# Altium integrated library CAP-CSGP_rev15b.intlib: 820 symbols (part 7 of 9)
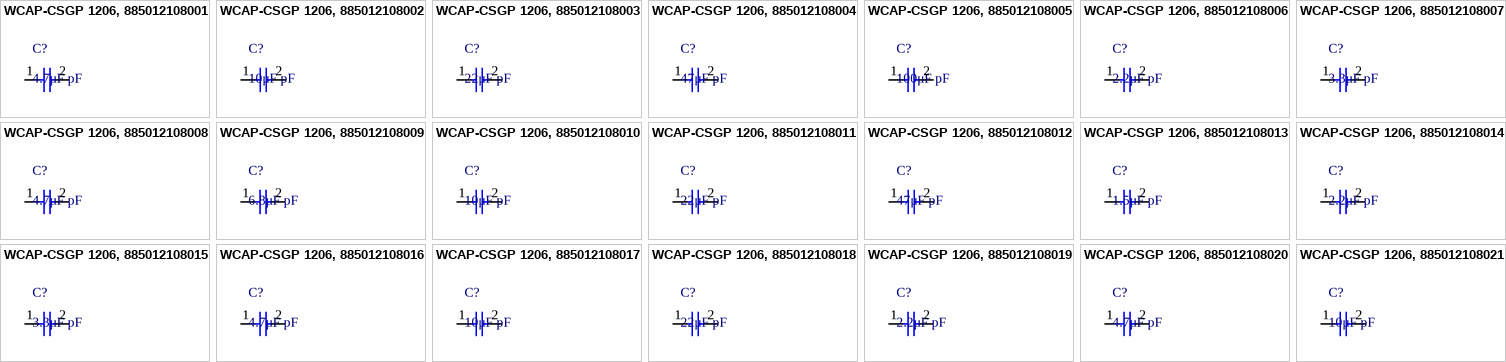
[diagram p34: symbols WCAP-CSGP 1206, 885012108001 to WCAP-CSGP 1206, 885012108021]

## WCAP-CSGP 1206, 885012108010
designator C?, comment 10μF pF
WCAP-CSGP MLCC, X5R, 1206, 10μF pF,10Vdc; Manufacturer: Wurth Elektronik; partNo: 885012108010; E-mail: libraries@we-online.com; ComponentLink1Description: Manufacturer; ComponentLink1URL: http://www.we-online.com; ComponentLink2Description: Datasheet; ComponentLink2URL: http://katalog.we-online.de/pbs/datasheet/885012108010.pdf; Created by: Karrer Zheng; Created Date: 3/9/2015; Capacitance: 10μF pF
footprint WCAP-CSGP 1206, H=1.6mm
pins: 1, 2

## WCAP-CSGP 1206, 885012108011
designator C?, comment 22μF pF
WCAP-CSGP MLCC, X5R, 1206, 22μF pF,10Vdc; Manufacturer: Wurth Elektronik; partNo: 885012108011; E-mail: libraries@we-online.com; ComponentLink1Description: Manufacturer; ComponentLink1URL: http://www.we-online.com; ComponentLink2Description: Datasheet; ComponentLink2URL: http://katalog.we-online.de/pbs/datasheet/885012108011.pdf; Created by: Karrer Zheng; Created Date: 3/9/2015; Capacitance: 22μF pF
footprint WCAP-CSGP 1206, H=1.6mm
pins: 1, 2

## WCAP-CSGP 1206, 885012108012
designator C?, comment 47μF pF
WCAP-CSGP MLCC, X5R, 1206, 47μF pF,10Vdc; Manufacturer: Wurth Elektronik; partNo: 885012108012; E-mail: libraries@we-online.com; ComponentLink1Description: Manufacturer; ComponentLink1URL: http://www.we-online.com; ComponentLink2Description: Datasheet; ComponentLink2URL: http://katalog.we-online.de/pbs/datasheet/885012108012.pdf; Created by: Karrer Zheng; Created Date: 3/9/2015; Capacitance: 47μF pF
footprint WCAP-CSGP 1206, H=1.6mm
pins: 1, 2

## WCAP-CSGP 1206, 885012108013
designator C?, comment 1.5μF pF
WCAP-CSGP MLCC, X5R, 1206, 1.5μF pF,16Vdc; Manufacturer: Wurth Elektronik; partNo: 885012108013; E-mail: libraries@we-online.com; ComponentLink1Description: Manufacturer; ComponentLink1URL: http://www.we-online.com; ComponentLink2Description: Datasheet; ComponentLink2URL: http://katalog.we-online.de/pbs/datasheet/885012108013.pdf; Created by: Karrer Zheng; Created Date: 3/9/2015; Capacitance: 1.5μF pF
footprint WCAP-CSGP 1206, H=1.15mm
pins: 1, 2

## WCAP-CSGP 1206, 885012108014
designator C?, comment 2.2μF pF
WCAP-CSGP MLCC, X5R, 1206, 2.2μF pF,16Vdc; Manufacturer: Wurth Elektronik; partNo: 885012108014; E-mail: libraries@we-online.com; ComponentLink1Description: Manufacturer; ComponentLink1URL: http://www.we-online.com; ComponentLink2Description: Datasheet; ComponentLink2URL: http://katalog.we-online.de/pbs/datasheet/885012108014.pdf; Created by: Karrer Zheng; Created Date: 3/9/2015; Capacitance: 2.2μF pF
footprint WCAP-CSGP 1206, H=1.15mm
pins: 1, 2

## WCAP-CSGP 1206, 885012108015
designator C?, comment 3.3μF pF
WCAP-CSGP MLCC, X5R, 1206, 3.3μF pF,16Vdc; Manufacturer: Wurth Elektronik; partNo: 885012108015; E-mail: libraries@we-online.com; ComponentLink1Description: Manufacturer; ComponentLink1URL: http://www.we-online.com; ComponentLink2Description: Datasheet; ComponentLink2URL: http://katalog.we-online.de/pbs/datasheet/885012108015.pdf; Created by: Karrer Zheng; Created Date: 3/9/2015; Capacitance: 3.3μF pF
footprint WCAP-CSGP 1206, H=1.6mm
pins: 1, 2

## WCAP-CSGP 1206, 885012108016
designator C?, comment 4.7μF pF
WCAP-CSGP MLCC, X5R, 1206, 4.7μF pF,16Vdc; Manufacturer: Wurth Elektronik; partNo: 885012108016; E-mail: libraries@we-online.com; ComponentLink1Description: Manufacturer; ComponentLink1URL: http://www.we-online.com; ComponentLink2Description: Datasheet; ComponentLink2URL: http://katalog.we-online.de/pbs/datasheet/885012108016.pdf; Created by: Karrer Zheng; Created Date: 3/9/2015; Capacitance: 4.7μF pF
footprint WCAP-CSGP 1206, H=1.6mm
pins: 1, 2

## WCAP-CSGP 1206, 885012108017
designator C?, comment 10μF pF
WCAP-CSGP MLCC, X5R, 1206, 10μF pF,16Vdc; Manufacturer: Wurth Elektronik; partNo: 885012108017; E-mail: libraries@we-online.com; ComponentLink1Description: Manufacturer; ComponentLink1URL: http://www.we-online.com; ComponentLink2Description: Datasheet; ComponentLink2URL: http://katalog.we-online.de/pbs/datasheet/885012108017.pdf; Created by: Karrer Zheng; Created Date: 3/9/2015; Capacitance: 10μF pF
footprint WCAP-CSGP 1206, H=1.6mm
pins: 1, 2

## WCAP-CSGP 1206, 885012108018
designator C?, comment 22μF pF
WCAP-CSGP MLCC, X5R, 1206, 22μF pF,16Vdc; Manufacturer: Wurth Elektronik; partNo: 885012108018; E-mail: libraries@we-online.com; ComponentLink1Description: Manufacturer; ComponentLink1URL: http://www.we-online.com; ComponentLink2Description: Datasheet; ComponentLink2URL: http://katalog.we-online.de/pbs/datasheet/885012108018.pdf; Created by: Karrer Zheng; Created Date: 3/9/2015; Capacitance: 22μF pF
footprint WCAP-CSGP 1206, H=1.6mm
pins: 1, 2

## WCAP-CSGP 1206, 885012108019
designator C?, comment 2.2μF pF
WCAP-CSGP MLCC, X5R, 1206, 2.2μF pF,25Vdc; Manufacturer: Wurth Elektronik; partNo: 885012108019; E-mail: libraries@we-online.com; ComponentLink1Description: Manufacturer; ComponentLink1URL: http://www.we-online.com; ComponentLink2Description: Datasheet; ComponentLink2URL: http://katalog.we-online.de/pbs/datasheet/885012108019.pdf; Created by: Karrer Zheng; Created Date: 3/9/2015; Capacitance: 2.2μF pF
footprint WCAP-CSGP 1206, H=1.6mm
pins: 1, 2

## WCAP-CSGP 1206, 885012108020
designator C?, comment 4.7μF pF
WCAP-CSGP MLCC, X5R, 1206, 4.7μF pF,25Vdc; Manufacturer: Wurth Elektronik; partNo: 885012108020; E-mail: libraries@we-online.com; ComponentLink1Description: Manufacturer; ComponentLink1URL: http://www.we-online.com; ComponentLink2Description: Datasheet; ComponentLink2URL: http://katalog.we-online.de/pbs/datasheet/885012108020.pdf; Created by: Karrer Zheng; Created Date: 3/9/2015; Capacitance: 4.7μF pF
footprint WCAP-CSGP 1206, H=1.6mm
pins: 1, 2

## WCAP-CSGP 1206, 885012108021
designator C?, comment 10μF pF
WCAP-CSGP MLCC, X5R, 1206, 10μF pF,25Vdc; Manufacturer: Wurth Elektronik; partNo: 885012108021; E-mail: libraries@we-online.com; ComponentLink1Description: Manufacturer; ComponentLink1URL: http://www.we-online.com; ComponentLink2Description: Datasheet; ComponentLink2URL: http://katalog.we-online.de/pbs/datasheet/885012108021.pdf; Created by: Karrer Zheng; Created Date: 3/9/2015; Capacitance: 10μF pF
footprint WCAP-CSGP 1206, H=1.6mm
pins: 1, 2


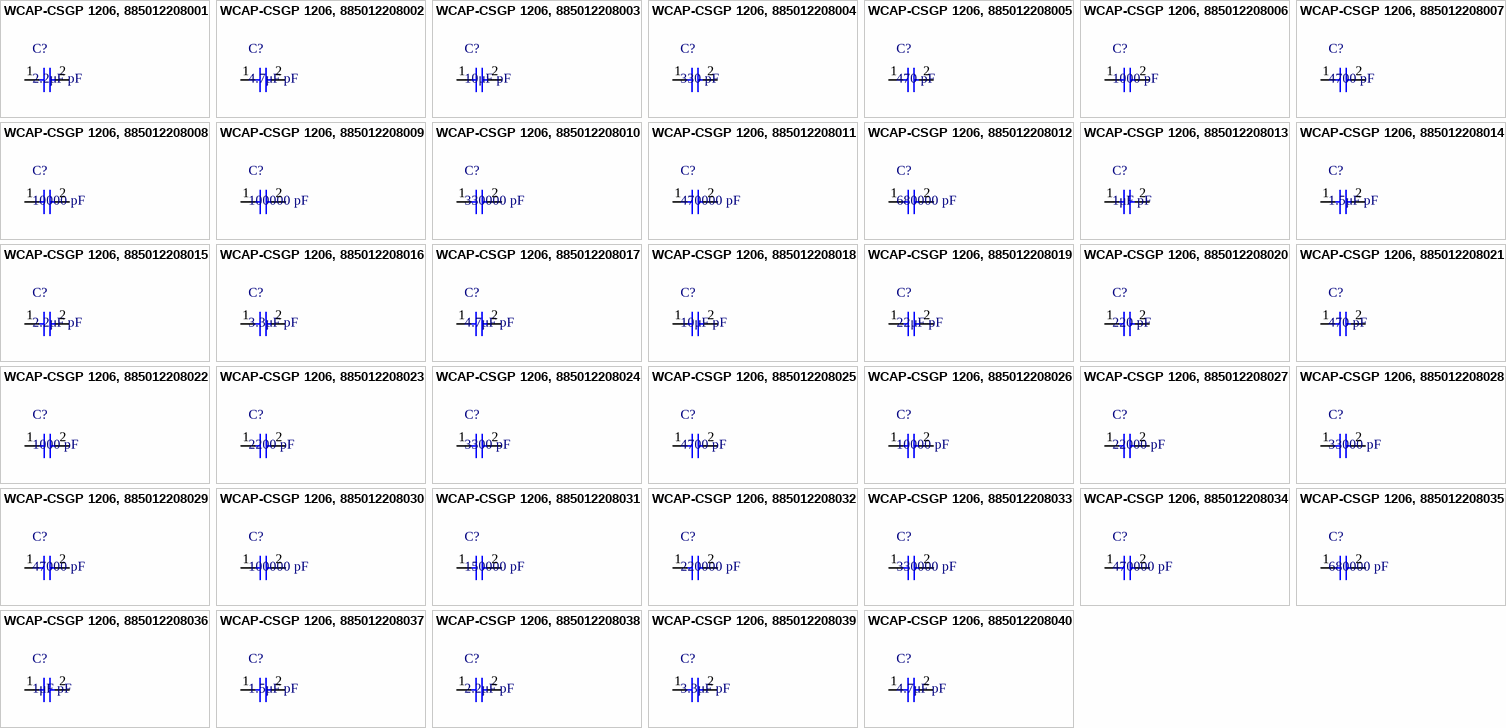
[diagram p20: symbols WCAP-CSGP 1206, 885012208001 to WCAP-CSGP 1206, 885012208040]

## WCAP-CSGP 1206, 885012208001
designator C?, comment 2.2μF pF
WCAP-CSGP MLCC, X7R, 1206, 2.2μF pF,6.3Vdc; Manufacturer: Wurth Elektronik; partNo: 885012208001; E-mail: libraries@we-online.com; ComponentLink1Description: Manufacturer; ComponentLink1URL: http://www.we-online.com; ComponentLink2Description: Datasheet; ComponentLink2URL: http://katalog.we-online.de/pbs/datasheet/885012208001.pdf; Created by: Karrer Zheng; Created Date: 3/9/2015; Capacitance: 2.2μF pF
footprint WCAP-CSGP 1206, H=1.15mm
pins: 1, 2

## WCAP-CSGP 1206, 885012208002
designator C?, comment 4.7μF pF
WCAP-CSGP MLCC, X7R, 1206, 4.7μF pF,6.3Vdc; Manufacturer: Wurth Elektronik; partNo: 885012208002; E-mail: libraries@we-online.com; ComponentLink1Description: Manufacturer; ComponentLink1URL: http://www.we-online.com; ComponentLink2Description: Datasheet; ComponentLink2URL: http://katalog.we-online.de/pbs/datasheet/885012208002.pdf; Created by: Karrer Zheng; Created Date: 3/9/2015; Capacitance: 4.7μF pF
footprint WCAP-CSGP 1206, H=1.6mm
pins: 1, 2

## WCAP-CSGP 1206, 885012208003
designator C?, comment 10μF pF
WCAP-CSGP MLCC, X7R, 1206, 10μF pF,6.3Vdc; Manufacturer: Wurth Elektronik; partNo: 885012208003; E-mail: libraries@we-online.com; ComponentLink1Description: Manufacturer; ComponentLink1URL: http://www.we-online.com; ComponentLink2Description: Datasheet; ComponentLink2URL: http://katalog.we-online.de/pbs/datasheet/885012208003.pdf; Created by: Karrer Zheng; Created Date: 3/9/2015; Capacitance: 10μF pF
footprint WCAP-CSGP 1206, H=1.6mm
pins: 1, 2

## WCAP-CSGP 1206, 885012208004
designator C?, comment 330 pF
WCAP-CSGP MLCC, X7R, 1206, 330 pF,10Vdc; Manufacturer: Wurth Elektronik; partNo: 885012208004; E-mail: libraries@we-online.com; ComponentLink1Description: Manufacturer; ComponentLink1URL: http://www.we-online.com; ComponentLink2Description: Datasheet; ComponentLink2URL: http://katalog.we-online.de/pbs/datasheet/885012208004.pdf; Created by: Karrer Zheng; Created Date: 3/9/2015; Capacitance: 330 pF
footprint WCAP-CSGP 1206, H=0.8mm
pins: 1, 2

## WCAP-CSGP 1206, 885012208005
designator C?, comment 470 pF
WCAP-CSGP MLCC, X7R, 1206, 470 pF,10Vdc; Manufacturer: Wurth Elektronik; partNo: 885012208005; E-mail: libraries@we-online.com; ComponentLink1Description: Manufacturer; ComponentLink1URL: http://www.we-online.com; ComponentLink2Description: Datasheet; ComponentLink2URL: http://katalog.we-online.de/pbs/datasheet/885012208005.pdf; Created by: Karrer Zheng; Created Date: 3/9/2015; Capacitance: 470 pF
footprint WCAP-CSGP 1206, H=0.8mm
pins: 1, 2

## WCAP-CSGP 1206, 885012208006
designator C?, comment 1000 pF
WCAP-CSGP MLCC, X7R, 1206, 1000 pF,10Vdc; Manufacturer: Wurth Elektronik; partNo: 885012208006; E-mail: libraries@we-online.com; ComponentLink1Description: Manufacturer; ComponentLink1URL: http://www.we-online.com; ComponentLink2Description: Datasheet; ComponentLink2URL: http://katalog.we-online.de/pbs/datasheet/885012208006.pdf; Created by: Karrer Zheng; Created Date: 3/9/2015; Capacitance: 1000 pF
footprint WCAP-CSGP 1206, H=0.8mm
pins: 1, 2

## WCAP-CSGP 1206, 885012208007
designator C?, comment 4700 pF
WCAP-CSGP MLCC, X7R, 1206, 4700 pF,10Vdc; Manufacturer: Wurth Elektronik; partNo: 885012208007; E-mail: libraries@we-online.com; ComponentLink1Description: Manufacturer; ComponentLink1URL: http://www.we-online.com; ComponentLink2Description: Datasheet; ComponentLink2URL: http://katalog.we-online.de/pbs/datasheet/885012208007.pdf; Created by: Karrer Zheng; Created Date: 3/9/2015; Capacitance: 4700 pF
footprint WCAP-CSGP 1206, H=0.8mm
pins: 1, 2

## WCAP-CSGP 1206, 885012208008
designator C?, comment 10000 pF
WCAP-CSGP MLCC, X7R, 1206, 10000 pF,10Vdc; Manufacturer: Wurth Elektronik; partNo: 885012208008; E-mail: libraries@we-online.com; ComponentLink1Description: Manufacturer; ComponentLink1URL: http://www.we-online.com; ComponentLink2Description: Datasheet; ComponentLink2URL: http://katalog.we-online.de/pbs/datasheet/885012208008.pdf; Created by: Karrer Zheng; Created Date: 3/9/2015; Capacitance: 10000 pF
footprint WCAP-CSGP 1206, H=0.8mm
pins: 1, 2

## WCAP-CSGP 1206, 885012208009
designator C?, comment 100000 pF
WCAP-CSGP MLCC, X7R, 1206, 100000 pF,10Vdc; Manufacturer: Wurth Elektronik; partNo: 885012208009; E-mail: libraries@we-online.com; ComponentLink1Description: Manufacturer; ComponentLink1URL: http://www.we-online.com; ComponentLink2Description: Datasheet; ComponentLink2URL: http://katalog.we-online.de/pbs/datasheet/885012208009.pdf; Created by: Karrer Zheng; Created Date: 3/9/2015; Capacitance: 100000 pF
footprint WCAP-CSGP 1206, H=0.8mm
pins: 1, 2

## WCAP-CSGP 1206, 885012208010
designator C?, comment 330000 pF
WCAP-CSGP MLCC, X7R, 1206, 330000 pF,10Vdc; Manufacturer: Wurth Elektronik; partNo: 885012208010; E-mail: libraries@we-online.com; ComponentLink1Description: Manufacturer; ComponentLink1URL: http://www.we-online.com; ComponentLink2Description: Datasheet; ComponentLink2URL: http://katalog.we-online.de/pbs/datasheet/885012208010.pdf; Created by: Karrer Zheng; Created Date: 3/9/2015; Capacitance: 330000 pF
footprint WCAP-CSGP 1206, H=0.95mm
pins: 1, 2

## WCAP-CSGP 1206, 885012208011
designator C?, comment 470000 pF
WCAP-CSGP MLCC, X7R, 1206, 470000 pF,10Vdc; Manufacturer: Wurth Elektronik; partNo: 885012208011; E-mail: libraries@we-online.com; ComponentLink1Description: Manufacturer; ComponentLink1URL: http://www.we-online.com; ComponentLink2Description: Datasheet; ComponentLink2URL: http://katalog.we-online.de/pbs/datasheet/885012208011.pdf; Created by: Karrer Zheng; Created Date: 3/9/2015; Capacitance: 470000 pF
footprint WCAP-CSGP 1206, H=1.15mm
pins: 1, 2

## WCAP-CSGP 1206, 885012208012
designator C?, comment 680000 pF
WCAP-CSGP MLCC, X7R, 1206, 680000 pF,10Vdc; Manufacturer: Wurth Elektronik; partNo: 885012208012; E-mail: libraries@we-online.com; ComponentLink1Description: Manufacturer; ComponentLink1URL: http://www.we-online.com; ComponentLink2Description: Datasheet; ComponentLink2URL: http://katalog.we-online.de/pbs/datasheet/885012208012.pdf; Created by: Karrer Zheng; Created Date: 3/9/2015; Capacitance: 680000 pF
footprint WCAP-CSGP 1206, H=1.15mm
pins: 1, 2

## WCAP-CSGP 1206, 885012208013
designator C?, comment 1μF pF
WCAP-CSGP MLCC, X7R, 1206, 1μF pF,10Vdc; Manufacturer: Wurth Elektronik; partNo: 885012208013; E-mail: libraries@we-online.com; ComponentLink1Description: Manufacturer; ComponentLink1URL: http://www.we-online.com; ComponentLink2Description: Datasheet; ComponentLink2URL: http://katalog.we-online.de/pbs/datasheet/885012208013.pdf; Created by: Karrer Zheng; Created Date: 3/9/2015; Capacitance: 1μF pF
footprint WCAP-CSGP 1206, H=1.15mm
pins: 1, 2

## WCAP-CSGP 1206, 885012208014
designator C?, comment 1.5μF pF
WCAP-CSGP MLCC, X7R, 1206, 1.5μF pF,10Vdc; Manufacturer: Wurth Elektronik; partNo: 885012208014; E-mail: libraries@we-online.com; ComponentLink1Description: Manufacturer; ComponentLink1URL: http://www.we-online.com; ComponentLink2Description: Datasheet; ComponentLink2URL: http://katalog.we-online.de/pbs/datasheet/885012208014.pdf; Created by: Karrer Zheng; Created Date: 3/9/2015; Capacitance: 1.5μF pF
footprint WCAP-CSGP 1206, H=1.15mm
pins: 1, 2

## WCAP-CSGP 1206, 885012208015
designator C?, comment 2.2μF pF
WCAP-CSGP MLCC, X7R, 1206, 2.2μF pF,10Vdc; Manufacturer: Wurth Elektronik; partNo: 885012208015; E-mail: libraries@we-online.com; ComponentLink1Description: Manufacturer; ComponentLink1URL: http://www.we-online.com; ComponentLink2Description: Datasheet; ComponentLink2URL: http://katalog.we-online.de/pbs/datasheet/885012208015.pdf; Created by: Karrer Zheng; Created Date: 3/9/2015; Capacitance: 2.2μF pF
footprint WCAP-CSGP 1206, H=1.15mm
pins: 1, 2

## WCAP-CSGP 1206, 885012208016
designator C?, comment 3.3μF pF
WCAP-CSGP MLCC, X7R, 1206, 3.3μF pF,10Vdc; Manufacturer: Wurth Elektronik; partNo: 885012208016; E-mail: libraries@we-online.com; ComponentLink1Description: Manufacturer; ComponentLink1URL: http://www.we-online.com; ComponentLink2Description: Datasheet; ComponentLink2URL: http://katalog.we-online.de/pbs/datasheet/885012208016.pdf; Created by: Karrer Zheng; Created Date: 3/9/2015; Capacitance: 3.3μF pF
footprint WCAP-CSGP 1206, H=1.6mm
pins: 1, 2

## WCAP-CSGP 1206, 885012208017
designator C?, comment 4.7μF pF
WCAP-CSGP MLCC, X7R, 1206, 4.7μF pF,10Vdc; Manufacturer: Wurth Elektronik; partNo: 885012208017; E-mail: libraries@we-online.com; ComponentLink1Description: Manufacturer; ComponentLink1URL: http://www.we-online.com; ComponentLink2Description: Datasheet; ComponentLink2URL: http://katalog.we-online.de/pbs/datasheet/885012208017.pdf; Created by: Karrer Zheng; Created Date: 3/9/2015; Capacitance: 4.7μF pF
footprint WCAP-CSGP 1206, H=1.6mm
pins: 1, 2

## WCAP-CSGP 1206, 885012208018
designator C?, comment 10μF pF
WCAP-CSGP MLCC, X7R, 1206, 10μF pF,10Vdc; Manufacturer: Wurth Elektronik; partNo: 885012208018; E-mail: libraries@we-online.com; ComponentLink1Description: Manufacturer; ComponentLink1URL: http://www.we-online.com; ComponentLink2Description: Datasheet; ComponentLink2URL: http://katalog.we-online.de/pbs/datasheet/885012208018.pdf; Created by: Karrer Zheng; Created Date: 3/9/2015; Capacitance: 10μF pF
footprint WCAP-CSGP 1206, H=1.6mm
pins: 1, 2

## WCAP-CSGP 1206, 885012208019
designator C?, comment 22μF pF
WCAP-CSGP MLCC, X7R, 1206, 22μF pF,10Vdc; Manufacturer: Wurth Elektronik; partNo: 885012208019; E-mail: libraries@we-online.com; ComponentLink1Description: Manufacturer; ComponentLink1URL: http://www.we-online.com; ComponentLink2Description: Datasheet; ComponentLink2URL: http://katalog.we-online.de/pbs/datasheet/885012208019.pdf; Created by: Karrer Zheng; Created Date: 3/9/2015; Capacitance: 22μF pF
footprint WCAP-CSGP 1206, H=1.6mm
pins: 1, 2

## WCAP-CSGP 1206, 885012208020
designator C?, comment 220 pF
WCAP-CSGP MLCC, X7R, 1206, 220 pF,16Vdc; Manufacturer: Wurth Elektronik; partNo: 885012208020; E-mail: libraries@we-online.com; ComponentLink1Description: Manufacturer; ComponentLink1URL: http://www.we-online.com; ComponentLink2Description: Datasheet; ComponentLink2URL: http://katalog.we-online.de/pbs/datasheet/885012208020.pdf; Created by: Karrer Zheng; Created Date: 3/9/2015; Capacitance: 220 pF
footprint WCAP-CSGP 1206, H=0.8mm
pins: 1, 2

## WCAP-CSGP 1206, 885012208021
designator C?, comment 470 pF
WCAP-CSGP MLCC, X7R, 1206, 470 pF,16Vdc; Manufacturer: Wurth Elektronik; partNo: 885012208021; E-mail: libraries@we-online.com; ComponentLink1Description: Manufacturer; ComponentLink1URL: http://www.we-online.com; ComponentLink2Description: Datasheet; ComponentLink2URL: http://katalog.we-online.de/pbs/datasheet/885012208021.pdf; Created by: Karrer Zheng; Created Date: 3/9/2015; Capacitance: 470 pF
footprint WCAP-CSGP 1206, H=0.8mm
pins: 1, 2

## WCAP-CSGP 1206, 885012208022
designator C?, comment 1000 pF
WCAP-CSGP MLCC, X7R, 1206, 1000 pF,16Vdc; Manufacturer: Wurth Elektronik; partNo: 885012208022; E-mail: libraries@we-online.com; ComponentLink1Description: Manufacturer; ComponentLink1URL: http://www.we-online.com; ComponentLink2Description: Datasheet; ComponentLink2URL: http://katalog.we-online.de/pbs/datasheet/885012208022.pdf; Created by: Karrer Zheng; Created Date: 3/9/2015; Capacitance: 1000 pF
footprint WCAP-CSGP 1206, H=0.8mm
pins: 1, 2

## WCAP-CSGP 1206, 885012208023
designator C?, comment 2200 pF
WCAP-CSGP MLCC, X7R, 1206, 2200 pF,16Vdc; Manufacturer: Wurth Elektronik; partNo: 885012208023; E-mail: libraries@we-online.com; ComponentLink1Description: Manufacturer; ComponentLink1URL: http://www.we-online.com; ComponentLink2Description: Datasheet; ComponentLink2URL: http://katalog.we-online.de/pbs/datasheet/885012208023.pdf; Created by: Karrer Zheng; Created Date: 3/9/2015; Capacitance: 2200 pF
footprint WCAP-CSGP 1206, H=0.8mm
pins: 1, 2

## WCAP-CSGP 1206, 885012208024
designator C?, comment 3300 pF
WCAP-CSGP MLCC, X7R, 1206, 3300 pF,16Vdc; Manufacturer: Wurth Elektronik; partNo: 885012208024; E-mail: libraries@we-online.com; ComponentLink1Description: Manufacturer; ComponentLink1URL: http://www.we-online.com; ComponentLink2Description: Datasheet; ComponentLink2URL: http://katalog.we-online.de/pbs/datasheet/885012208024.pdf; Created by: Karrer Zheng; Created Date: 3/9/2015; Capacitance: 3300 pF
footprint WCAP-CSGP 1206, H=0.8mm
pins: 1, 2

## WCAP-CSGP 1206, 885012208025
designator C?, comment 4700 pF
WCAP-CSGP MLCC, X7R, 1206, 4700 pF,16Vdc; Manufacturer: Wurth Elektronik; partNo: 885012208025; E-mail: libraries@we-online.com; ComponentLink1Description: Manufacturer; ComponentLink1URL: http://www.we-online.com; ComponentLink2Description: Datasheet; ComponentLink2URL: http://katalog.we-online.de/pbs/datasheet/885012208025.pdf; Created by: Karrer Zheng; Created Date: 3/9/2015; Capacitance: 4700 pF
footprint WCAP-CSGP 1206, H=0.8mm
pins: 1, 2

## WCAP-CSGP 1206, 885012208026
designator C?, comment 10000 pF
WCAP-CSGP MLCC, X7R, 1206, 10000 pF,16Vdc; Manufacturer: Wurth Elektronik; partNo: 885012208026; E-mail: libraries@we-online.com; ComponentLink1Description: Manufacturer; ComponentLink1URL: http://www.we-online.com; ComponentLink2Description: Datasheet; ComponentLink2URL: http://katalog.we-online.de/pbs/datasheet/885012208026.pdf; Created by: Karrer Zheng; Created Date: 3/9/2015; Capacitance: 10000 pF
footprint WCAP-CSGP 1206, H=0.8mm
pins: 1, 2

## WCAP-CSGP 1206, 885012208027
designator C?, comment 22000 pF
WCAP-CSGP MLCC, X7R, 1206, 22000 pF,16Vdc; Manufacturer: Wurth Elektronik; partNo: 885012208027; E-mail: libraries@we-online.com; ComponentLink1Description: Manufacturer; ComponentLink1URL: http://www.we-online.com; ComponentLink2Description: Datasheet; ComponentLink2URL: http://katalog.we-online.de/pbs/datasheet/885012208027.pdf; Created by: Karrer Zheng; Created Date: 3/9/2015; Capacitance: 22000 pF
footprint WCAP-CSGP 1206, H=0.8mm
pins: 1, 2

## WCAP-CSGP 1206, 885012208028
designator C?, comment 33000 pF
WCAP-CSGP MLCC, X7R, 1206, 33000 pF,16Vdc; Manufacturer: Wurth Elektronik; partNo: 885012208028; E-mail: libraries@we-online.com; ComponentLink1Description: Manufacturer; ComponentLink1URL: http://www.we-online.com; ComponentLink2Description: Datasheet; ComponentLink2URL: http://katalog.we-online.de/pbs/datasheet/885012208028.pdf; Created by: Karrer Zheng; Created Date: 3/9/2015; Capacitance: 33000 pF
footprint WCAP-CSGP 1206, H=0.8mm
pins: 1, 2

## WCAP-CSGP 1206, 885012208029
designator C?, comment 47000 pF
WCAP-CSGP MLCC, X7R, 1206, 47000 pF,16Vdc; Manufacturer: Wurth Elektronik; partNo: 885012208029; E-mail: libraries@we-online.com; ComponentLink1Description: Manufacturer; ComponentLink1URL: http://www.we-online.com; ComponentLink2Description: Datasheet; ComponentLink2URL: http://katalog.we-online.de/pbs/datasheet/885012208029.pdf; Created by: Karrer Zheng; Created Date: 3/9/2015; Capacitance: 47000 pF
footprint WCAP-CSGP 1206, H=0.8mm
pins: 1, 2

## WCAP-CSGP 1206, 885012208030
designator C?, comment 100000 pF
WCAP-CSGP MLCC, X7R, 1206, 100000 pF,16Vdc; Manufacturer: Wurth Elektronik; partNo: 885012208030; E-mail: libraries@we-online.com; ComponentLink1Description: Manufacturer; ComponentLink1URL: http://www.we-online.com; ComponentLink2Description: Datasheet; ComponentLink2URL: http://katalog.we-online.de/pbs/datasheet/885012208030.pdf; Created by: Karrer Zheng; Created Date: 3/9/2015; Capacitance: 100000 pF
footprint WCAP-CSGP 1206, H=0.8mm
pins: 1, 2

## WCAP-CSGP 1206, 885012208031
designator C?, comment 150000 pF
WCAP-CSGP MLCC, X7R, 1206, 150000 pF,16Vdc; Manufacturer: Wurth Elektronik; partNo: 885012208031; E-mail: libraries@we-online.com; ComponentLink1Description: Manufacturer; ComponentLink1URL: http://www.we-online.com; ComponentLink2Description: Datasheet; ComponentLink2URL: http://katalog.we-online.de/pbs/datasheet/885012208031.pdf; Created by: Karrer Zheng; Created Date: 3/9/2015; Capacitance: 150000 pF
footprint WCAP-CSGP 1206, H=0.95mm
pins: 1, 2

## WCAP-CSGP 1206, 885012208032
designator C?, comment 220000 pF
WCAP-CSGP MLCC, X7R, 1206, 220000 pF,16Vdc; Manufacturer: Wurth Elektronik; partNo: 885012208032; E-mail: libraries@we-online.com; ComponentLink1Description: Manufacturer; ComponentLink1URL: http://www.we-online.com; ComponentLink2Description: Datasheet; ComponentLink2URL: http://katalog.we-online.de/pbs/datasheet/885012208032.pdf; Created by: Karrer Zheng; Created Date: 3/9/2015; Capacitance: 220000 pF
footprint WCAP-CSGP 1206, H=0.95mm
pins: 1, 2

## WCAP-CSGP 1206, 885012208033
designator C?, comment 330000 pF
WCAP-CSGP MLCC, X7R, 1206, 330000 pF,16Vdc; Manufacturer: Wurth Elektronik; partNo: 885012208033; E-mail: libraries@we-online.com; ComponentLink1Description: Manufacturer; ComponentLink1URL: http://www.we-online.com; ComponentLink2Description: Datasheet; ComponentLink2URL: http://katalog.we-online.de/pbs/datasheet/885012208033.pdf; Created by: Karrer Zheng; Created Date: 3/9/2015; Capacitance: 330000 pF
footprint WCAP-CSGP 1206, H=0.95mm
pins: 1, 2

## WCAP-CSGP 1206, 885012208034
designator C?, comment 470000 pF
WCAP-CSGP MLCC, X7R, 1206, 470000 pF,16Vdc; Manufacturer: Wurth Elektronik; partNo: 885012208034; E-mail: libraries@we-online.com; ComponentLink1Description: Manufacturer; ComponentLink1URL: http://www.we-online.com; ComponentLink2Description: Datasheet; ComponentLink2URL: http://katalog.we-online.de/pbs/datasheet/885012208034.pdf; Created by: Karrer Zheng; Created Date: 3/9/2015; Capacitance: 470000 pF
footprint WCAP-CSGP 1206, H=1.15mm
pins: 1, 2

## WCAP-CSGP 1206, 885012208035
designator C?, comment 680000 pF
WCAP-CSGP MLCC, X7R, 1206, 680000 pF,16Vdc; Manufacturer: Wurth Elektronik; partNo: 885012208035; E-mail: libraries@we-online.com; ComponentLink1Description: Manufacturer; ComponentLink1URL: http://www.we-online.com; ComponentLink2Description: Datasheet; ComponentLink2URL: http://katalog.we-online.de/pbs/datasheet/885012208035.pdf; Created by: Karrer Zheng; Created Date: 3/9/2015; Capacitance: 680000 pF
footprint WCAP-CSGP 1206, H=1.15mm
pins: 1, 2

## WCAP-CSGP 1206, 885012208036
designator C?, comment 1μF pF
WCAP-CSGP MLCC, X7R, 1206, 1μF pF,16Vdc; Manufacturer: Wurth Elektronik; partNo: 885012208036; E-mail: libraries@we-online.com; ComponentLink1Description: Manufacturer; ComponentLink1URL: http://www.we-online.com; ComponentLink2Description: Datasheet; ComponentLink2URL: http://katalog.we-online.de/pbs/datasheet/885012208036.pdf; Created by: Karrer Zheng; Created Date: 3/9/2015; Capacitance: 1μF pF
footprint WCAP-CSGP 1206, H=1.15mm
pins: 1, 2

## WCAP-CSGP 1206, 885012208037
designator C?, comment 1.5μF pF
WCAP-CSGP MLCC, X7R, 1206, 1.5μF pF,16Vdc; Manufacturer: Wurth Elektronik; partNo: 885012208037; E-mail: libraries@we-online.com; ComponentLink1Description: Manufacturer; ComponentLink1URL: http://www.we-online.com; ComponentLink2Description: Datasheet; ComponentLink2URL: http://katalog.we-online.de/pbs/datasheet/885012208037.pdf; Created by: Karrer Zheng; Created Date: 3/9/2015; Capacitance: 1.5μF pF
footprint WCAP-CSGP 1206, H=1.15mm
pins: 1, 2

## WCAP-CSGP 1206, 885012208038
designator C?, comment 2.2μF pF
WCAP-CSGP MLCC, X7R, 1206, 2.2μF pF,16Vdc; Manufacturer: Wurth Elektronik; partNo: 885012208038; E-mail: libraries@we-online.com; ComponentLink1Description: Manufacturer; ComponentLink1URL: http://www.we-online.com; ComponentLink2Description: Datasheet; ComponentLink2URL: http://katalog.we-online.de/pbs/datasheet/885012208038.pdf; Created by: Karrer Zheng; Created Date: 3/9/2015; Capacitance: 2.2μF pF
footprint WCAP-CSGP 1206, H=1.15mm
pins: 1, 2

## WCAP-CSGP 1206, 885012208039
designator C?, comment 3.3μF pF
WCAP-CSGP MLCC, X7R, 1206, 3.3μF pF,16Vdc; Manufacturer: Wurth Elektronik; partNo: 885012208039; E-mail: libraries@we-online.com; ComponentLink1Description: Manufacturer; ComponentLink1URL: http://www.we-online.com; ComponentLink2Description: Datasheet; ComponentLink2URL: http://katalog.we-online.de/pbs/datasheet/885012208039.pdf; Created by: Karrer Zheng; Created Date: 3/9/2015; Capacitance: 3.3μF pF
footprint WCAP-CSGP 1206, H=1.6mm
pins: 1, 2

## WCAP-CSGP 1206, 885012208040
designator C?, comment 4.7μF pF
WCAP-CSGP MLCC, X7R, 1206, 4.7μF pF,16Vdc; Manufacturer: Wurth Elektronik; partNo: 885012208040; E-mail: libraries@we-online.com; ComponentLink1Description: Manufacturer; ComponentLink1URL: http://www.we-online.com; ComponentLink2Description: Datasheet; ComponentLink2URL: http://katalog.we-online.de/pbs/datasheet/885012208040.pdf; Created by: Karrer Zheng; Created Date: 3/9/2015; Capacitance: 4.7μF pF
footprint WCAP-CSGP 1206, H=1.6mm
pins: 1, 2

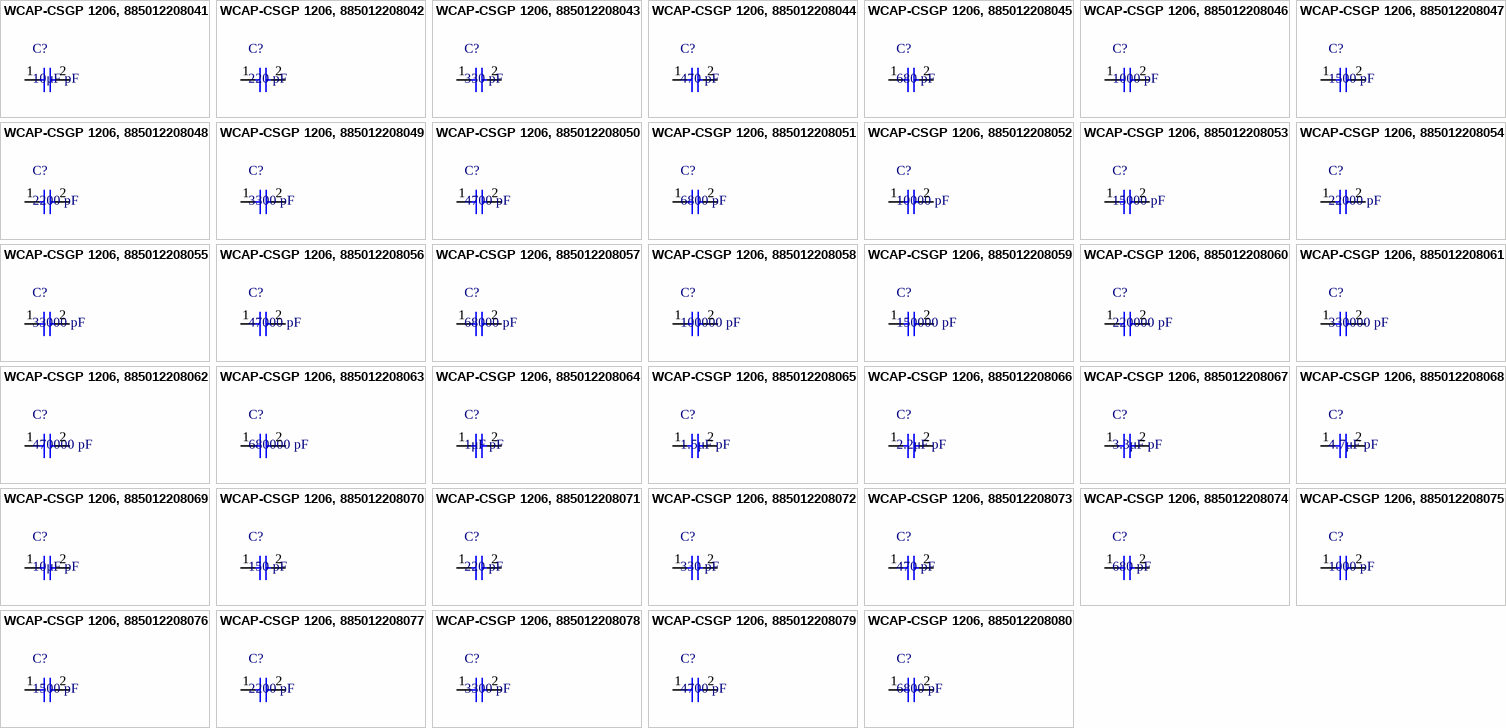
[diagram p21: symbols WCAP-CSGP 1206, 885012208041 to WCAP-CSGP 1206, 885012208080]

## WCAP-CSGP 1206, 885012208041
designator C?, comment 10μF pF
WCAP-CSGP MLCC, X7R, 1206, 10μF pF,16Vdc; Manufacturer: Wurth Elektronik; partNo: 885012208041; E-mail: libraries@we-online.com; ComponentLink1Description: Manufacturer; ComponentLink1URL: http://www.we-online.com; ComponentLink2Description: Datasheet; ComponentLink2URL: http://katalog.we-online.de/pbs/datasheet/885012208041.pdf; Created by: Karrer Zheng; Created Date: 3/9/2015; Capacitance: 10μF pF
footprint WCAP-CSGP 1206, H=1.6mm
pins: 1, 2

## WCAP-CSGP 1206, 885012208042
designator C?, comment 220 pF
WCAP-CSGP MLCC, X7R, 1206, 220 pF,25Vdc; Manufacturer: Wurth Elektronik; partNo: 885012208042; E-mail: libraries@we-online.com; ComponentLink1Description: Manufacturer; ComponentLink1URL: http://www.we-online.com; ComponentLink2Description: Datasheet; ComponentLink2URL: http://katalog.we-online.de/pbs/datasheet/885012208042.pdf; Created by: Karrer Zheng; Created Date: 3/9/2015; Capacitance: 220 pF
footprint WCAP-CSGP 1206, H=0.8mm
pins: 1, 2

## WCAP-CSGP 1206, 885012208043
designator C?, comment 330 pF
WCAP-CSGP MLCC, X7R, 1206, 330 pF,25Vdc; Manufacturer: Wurth Elektronik; partNo: 885012208043; E-mail: libraries@we-online.com; ComponentLink1Description: Manufacturer; ComponentLink1URL: http://www.we-online.com; ComponentLink2Description: Datasheet; ComponentLink2URL: http://katalog.we-online.de/pbs/datasheet/885012208043.pdf; Created by: Karrer Zheng; Created Date: 3/9/2015; Capacitance: 330 pF
footprint WCAP-CSGP 1206, H=0.8mm
pins: 1, 2

## WCAP-CSGP 1206, 885012208044
designator C?, comment 470 pF
WCAP-CSGP MLCC, X7R, 1206, 470 pF,25Vdc; Manufacturer: Wurth Elektronik; partNo: 885012208044; E-mail: libraries@we-online.com; ComponentLink1Description: Manufacturer; ComponentLink1URL: http://www.we-online.com; ComponentLink2Description: Datasheet; ComponentLink2URL: http://katalog.we-online.de/pbs/datasheet/885012208044.pdf; Created by: Karrer Zheng; Created Date: 3/9/2015; Capacitance: 470 pF
footprint WCAP-CSGP 1206, H=0.8mm
pins: 1, 2

## WCAP-CSGP 1206, 885012208045
designator C?, comment 680 pF
WCAP-CSGP MLCC, X7R, 1206, 680 pF,25Vdc; Manufacturer: Wurth Elektronik; partNo: 885012208045; E-mail: libraries@we-online.com; ComponentLink1Description: Manufacturer; ComponentLink1URL: http://www.we-online.com; ComponentLink2Description: Datasheet; ComponentLink2URL: http://katalog.we-online.de/pbs/datasheet/885012208045.pdf; Created by: Karrer Zheng; Created Date: 3/9/2015; Capacitance: 680 pF
footprint WCAP-CSGP 1206, H=0.8mm
pins: 1, 2

## WCAP-CSGP 1206, 885012208046
designator C?, comment 1000 pF
WCAP-CSGP MLCC, X7R, 1206, 1000 pF,25Vdc; Manufacturer: Wurth Elektronik; partNo: 885012208046; E-mail: libraries@we-online.com; ComponentLink1Description: Manufacturer; ComponentLink1URL: http://www.we-online.com; ComponentLink2Description: Datasheet; ComponentLink2URL: http://katalog.we-online.de/pbs/datasheet/885012208046.pdf; Created by: Karrer Zheng; Created Date: 3/9/2015; Capacitance: 1000 pF
footprint WCAP-CSGP 1206, H=0.8mm
pins: 1, 2

## WCAP-CSGP 1206, 885012208047
designator C?, comment 1500 pF
WCAP-CSGP MLCC, X7R, 1206, 1500 pF,25Vdc; Manufacturer: Wurth Elektronik; partNo: 885012208047; E-mail: libraries@we-online.com; ComponentLink1Description: Manufacturer; ComponentLink1URL: http://www.we-online.com; ComponentLink2Description: Datasheet; ComponentLink2URL: http://katalog.we-online.de/pbs/datasheet/885012208047.pdf; Created by: Karrer Zheng; Created Date: 3/9/2015; Capacitance: 1500 pF
footprint WCAP-CSGP 1206, H=0.8mm
pins: 1, 2

## WCAP-CSGP 1206, 885012208048
designator C?, comment 2200 pF
WCAP-CSGP MLCC, X7R, 1206, 2200 pF,25Vdc; Manufacturer: Wurth Elektronik; partNo: 885012208048; E-mail: libraries@we-online.com; ComponentLink1Description: Manufacturer; ComponentLink1URL: http://www.we-online.com; ComponentLink2Description: Datasheet; ComponentLink2URL: http://katalog.we-online.de/pbs/datasheet/885012208048.pdf; Created by: Karrer Zheng; Created Date: 3/9/2015; Capacitance: 2200 pF
footprint WCAP-CSGP 1206, H=0.8mm
pins: 1, 2

## WCAP-CSGP 1206, 885012208049
designator C?, comment 3300 pF
WCAP-CSGP MLCC, X7R, 1206, 3300 pF,25Vdc; Manufacturer: Wurth Elektronik; partNo: 885012208049; E-mail: libraries@we-online.com; ComponentLink1Description: Manufacturer; ComponentLink1URL: http://www.we-online.com; ComponentLink2Description: Datasheet; ComponentLink2URL: http://katalog.we-online.de/pbs/datasheet/885012208049.pdf; Created by: Karrer Zheng; Created Date: 3/9/2015; Capacitance: 3300 pF
footprint WCAP-CSGP 1206, H=0.8mm
pins: 1, 2

## WCAP-CSGP 1206, 885012208050
designator C?, comment 4700 pF
WCAP-CSGP MLCC, X7R, 1206, 4700 pF,25Vdc; Manufacturer: Wurth Elektronik; partNo: 885012208050; E-mail: libraries@we-online.com; ComponentLink1Description: Manufacturer; ComponentLink1URL: http://www.we-online.com; ComponentLink2Description: Datasheet; ComponentLink2URL: http://katalog.we-online.de/pbs/datasheet/885012208050.pdf; Created by: Karrer Zheng; Created Date: 3/9/2015; Capacitance: 4700 pF
footprint WCAP-CSGP 1206, H=0.8mm
pins: 1, 2

## WCAP-CSGP 1206, 885012208051
designator C?, comment 6800 pF
WCAP-CSGP MLCC, X7R, 1206, 6800 pF,25Vdc; Manufacturer: Wurth Elektronik; partNo: 885012208051; E-mail: libraries@we-online.com; ComponentLink1Description: Manufacturer; ComponentLink1URL: http://www.we-online.com; ComponentLink2Description: Datasheet; ComponentLink2URL: http://katalog.we-online.de/pbs/datasheet/885012208051.pdf; Created by: Karrer Zheng; Created Date: 3/9/2015; Capacitance: 6800 pF
footprint WCAP-CSGP 1206, H=0.8mm
pins: 1, 2

## WCAP-CSGP 1206, 885012208052
designator C?, comment 10000 pF
WCAP-CSGP MLCC, X7R, 1206, 10000 pF,25Vdc; Manufacturer: Wurth Elektronik; partNo: 885012208052; E-mail: libraries@we-online.com; ComponentLink1Description: Manufacturer; ComponentLink1URL: http://www.we-online.com; ComponentLink2Description: Datasheet; ComponentLink2URL: http://katalog.we-online.de/pbs/datasheet/885012208052.pdf; Created by: Karrer Zheng; Created Date: 3/9/2015; Capacitance: 10000 pF
footprint WCAP-CSGP 1206, H=0.8mm
pins: 1, 2

## WCAP-CSGP 1206, 885012208053
designator C?, comment 15000 pF
WCAP-CSGP MLCC, X7R, 1206, 15000 pF,25Vdc; Manufacturer: Wurth Elektronik; partNo: 885012208053; E-mail: libraries@we-online.com; ComponentLink1Description: Manufacturer; ComponentLink1URL: http://www.we-online.com; ComponentLink2Description: Datasheet; ComponentLink2URL: http://katalog.we-online.de/pbs/datasheet/885012208053.pdf; Created by: Karrer Zheng; Created Date: 3/9/2015; Capacitance: 15000 pF
footprint WCAP-CSGP 1206, H=0.8mm
pins: 1, 2

## WCAP-CSGP 1206, 885012208054
designator C?, comment 22000 pF
WCAP-CSGP MLCC, X7R, 1206, 22000 pF,25Vdc; Manufacturer: Wurth Elektronik; partNo: 885012208054; E-mail: libraries@we-online.com; ComponentLink1Description: Manufacturer; ComponentLink1URL: http://www.we-online.com; ComponentLink2Description: Datasheet; ComponentLink2URL: http://katalog.we-online.de/pbs/datasheet/885012208054.pdf; Created by: Karrer Zheng; Created Date: 3/9/2015; Capacitance: 22000 pF
footprint WCAP-CSGP 1206, H=0.8mm
pins: 1, 2

## WCAP-CSGP 1206, 885012208055
designator C?, comment 33000 pF
WCAP-CSGP MLCC, X7R, 1206, 33000 pF,25Vdc; Manufacturer: Wurth Elektronik; partNo: 885012208055; E-mail: libraries@we-online.com; ComponentLink1Description: Manufacturer; ComponentLink1URL: http://www.we-online.com; ComponentLink2Description: Datasheet; ComponentLink2URL: http://katalog.we-online.de/pbs/datasheet/885012208055.pdf; Created by: Karrer Zheng; Created Date: 3/9/2015; Capacitance: 33000 pF
footprint WCAP-CSGP 1206, H=0.8mm
pins: 1, 2

## WCAP-CSGP 1206, 885012208056
designator C?, comment 47000 pF
WCAP-CSGP MLCC, X7R, 1206, 47000 pF,25Vdc; Manufacturer: Wurth Elektronik; partNo: 885012208056; E-mail: libraries@we-online.com; ComponentLink1Description: Manufacturer; ComponentLink1URL: http://www.we-online.com; ComponentLink2Description: Datasheet; ComponentLink2URL: http://katalog.we-online.de/pbs/datasheet/885012208056.pdf; Created by: Karrer Zheng; Created Date: 3/9/2015; Capacitance: 47000 pF
footprint WCAP-CSGP 1206, H=0.8mm
pins: 1, 2

## WCAP-CSGP 1206, 885012208057
designator C?, comment 68000 pF
WCAP-CSGP MLCC, X7R, 1206, 68000 pF,25Vdc; Manufacturer: Wurth Elektronik; partNo: 885012208057; E-mail: libraries@we-online.com; ComponentLink1Description: Manufacturer; ComponentLink1URL: http://www.we-online.com; ComponentLink2Description: Datasheet; ComponentLink2URL: http://katalog.we-online.de/pbs/datasheet/885012208057.pdf; Created by: Karrer Zheng; Created Date: 3/9/2015; Capacitance: 68000 pF
footprint WCAP-CSGP 1206, H=0.8mm
pins: 1, 2

## WCAP-CSGP 1206, 885012208058
designator C?, comment 100000 pF
WCAP-CSGP MLCC, X7R, 1206, 100000 pF,25Vdc; Manufacturer: Wurth Elektronik; partNo: 885012208058; E-mail: libraries@we-online.com; ComponentLink1Description: Manufacturer; ComponentLink1URL: http://www.we-online.com; ComponentLink2Description: Datasheet; ComponentLink2URL: http://katalog.we-online.de/pbs/datasheet/885012208058.pdf; Created by: Karrer Zheng; Created Date: 3/9/2015; Capacitance: 100000 pF
footprint WCAP-CSGP 1206, H=0.8mm
pins: 1, 2

## WCAP-CSGP 1206, 885012208059
designator C?, comment 150000 pF
WCAP-CSGP MLCC, X7R, 1206, 150000 pF,25Vdc; Manufacturer: Wurth Elektronik; partNo: 885012208059; E-mail: libraries@we-online.com; ComponentLink1Description: Manufacturer; ComponentLink1URL: http://www.we-online.com; ComponentLink2Description: Datasheet; ComponentLink2URL: http://katalog.we-online.de/pbs/datasheet/885012208059.pdf; Created by: Karrer Zheng; Created Date: 3/9/2015; Capacitance: 150000 pF
footprint WCAP-CSGP 1206, H=0.95mm
pins: 1, 2

## WCAP-CSGP 1206, 885012208060
designator C?, comment 220000 pF
WCAP-CSGP MLCC, X7R, 1206, 220000 pF,25Vdc; Manufacturer: Wurth Elektronik; partNo: 885012208060; E-mail: libraries@we-online.com; ComponentLink1Description: Manufacturer; ComponentLink1URL: http://www.we-online.com; ComponentLink2Description: Datasheet; ComponentLink2URL: http://katalog.we-online.de/pbs/datasheet/885012208060.pdf; Created by: Karrer Zheng; Created Date: 3/9/2015; Capacitance: 220000 pF
footprint WCAP-CSGP 1206, H=0.95mm
pins: 1, 2

## WCAP-CSGP 1206, 885012208061
designator C?, comment 330000 pF
WCAP-CSGP MLCC, X7R, 1206, 330000 pF,25Vdc; Manufacturer: Wurth Elektronik; partNo: 885012208061; E-mail: libraries@we-online.com; ComponentLink1Description: Manufacturer; ComponentLink1URL: http://www.we-online.com; ComponentLink2Description: Datasheet; ComponentLink2URL: http://katalog.we-online.de/pbs/datasheet/885012208061.pdf; Created by: Karrer Zheng; Created Date: 3/9/2015; Capacitance: 330000 pF
footprint WCAP-CSGP 1206, H=0.95mm
pins: 1, 2

## WCAP-CSGP 1206, 885012208062
designator C?, comment 470000 pF
WCAP-CSGP MLCC, X7R, 1206, 470000 pF,25Vdc; Manufacturer: Wurth Elektronik; partNo: 885012208062; E-mail: libraries@we-online.com; ComponentLink1Description: Manufacturer; ComponentLink1URL: http://www.we-online.com; ComponentLink2Description: Datasheet; ComponentLink2URL: http://katalog.we-online.de/pbs/datasheet/885012208062.pdf; Created by: Karrer Zheng; Created Date: 3/9/2015; Capacitance: 470000 pF
footprint WCAP-CSGP 1206, H=1.15mm
pins: 1, 2

## WCAP-CSGP 1206, 885012208063
designator C?, comment 680000 pF
WCAP-CSGP MLCC, X7R, 1206, 680000 pF,25Vdc; Manufacturer: Wurth Elektronik; partNo: 885012208063; E-mail: libraries@we-online.com; ComponentLink1Description: Manufacturer; ComponentLink1URL: http://www.we-online.com; ComponentLink2Description: Datasheet; ComponentLink2URL: http://katalog.we-online.de/pbs/datasheet/885012208063.pdf; Created by: Karrer Zheng; Created Date: 3/9/2015; Capacitance: 680000 pF
footprint WCAP-CSGP 1206, H=1.15mm
pins: 1, 2

## WCAP-CSGP 1206, 885012208064
designator C?, comment 1μF pF
WCAP-CSGP MLCC, X7R, 1206, 1μF pF,25Vdc; Manufacturer: Wurth Elektronik; partNo: 885012208064; E-mail: libraries@we-online.com; ComponentLink1Description: Manufacturer; ComponentLink1URL: http://www.we-online.com; ComponentLink2Description: Datasheet; ComponentLink2URL: http://katalog.we-online.de/pbs/datasheet/885012208064.pdf; Created by: Karrer Zheng; Created Date: 3/9/2015; Capacitance: 1μF pF
footprint WCAP-CSGP 1206, H=1.15mm
pins: 1, 2

## WCAP-CSGP 1206, 885012208065
designator C?, comment 1.5μF pF
WCAP-CSGP MLCC, X7R, 1206, 1.5μF pF,25Vdc; Manufacturer: Wurth Elektronik; partNo: 885012208065; E-mail: libraries@we-online.com; ComponentLink1Description: Manufacturer; ComponentLink1URL: http://www.we-online.com; ComponentLink2Description: Datasheet; ComponentLink2URL: http://katalog.we-online.de/pbs/datasheet/885012208065.pdf; Created by: Karrer Zheng; Created Date: 3/9/2015; Capacitance: 1.5μF pF
footprint WCAP-CSGP 1206, H=1.6mm
pins: 1, 2

## WCAP-CSGP 1206, 885012208066
designator C?, comment 2.2μF pF
WCAP-CSGP MLCC, X7R, 1206, 2.2μF pF,25Vdc; Manufacturer: Wurth Elektronik; partNo: 885012208066; E-mail: libraries@we-online.com; ComponentLink1Description: Manufacturer; ComponentLink1URL: http://www.we-online.com; ComponentLink2Description: Datasheet; ComponentLink2URL: http://katalog.we-online.de/pbs/datasheet/885012208066.pdf; Created by: Karrer Zheng; Created Date: 3/9/2015; Capacitance: 2.2μF pF
footprint WCAP-CSGP 1206, H=1.6mm
pins: 1, 2

## WCAP-CSGP 1206, 885012208067
designator C?, comment 3.3μF pF
WCAP-CSGP MLCC, X7R, 1206, 3.3μF pF,25Vdc; Manufacturer: Wurth Elektronik; partNo: 885012208067; E-mail: libraries@we-online.com; ComponentLink1Description: Manufacturer; ComponentLink1URL: http://www.we-online.com; ComponentLink2Description: Datasheet; ComponentLink2URL: http://katalog.we-online.de/pbs/datasheet/885012208067.pdf; Created by: Karrer Zheng; Created Date: 3/9/2015; Capacitance: 3.3μF pF
footprint WCAP-CSGP 1206, H=1.6mm
pins: 1, 2

## WCAP-CSGP 1206, 885012208068
designator C?, comment 4.7μF pF
WCAP-CSGP MLCC, X7R, 1206, 4.7μF pF,25Vdc; Manufacturer: Wurth Elektronik; partNo: 885012208068; E-mail: libraries@we-online.com; ComponentLink1Description: Manufacturer; ComponentLink1URL: http://www.we-online.com; ComponentLink2Description: Datasheet; ComponentLink2URL: http://katalog.we-online.de/pbs/datasheet/885012208068.pdf; Created by: Karrer Zheng; Created Date: 3/9/2015; Capacitance: 4.7μF pF
footprint WCAP-CSGP 1206, H=1.6mm
pins: 1, 2

## WCAP-CSGP 1206, 885012208069
designator C?, comment 10μF pF
WCAP-CSGP MLCC, X7R, 1206, 10μF pF,25Vdc; Manufacturer: Wurth Elektronik; partNo: 885012208069; E-mail: libraries@we-online.com; ComponentLink1Description: Manufacturer; ComponentLink1URL: http://www.we-online.com; ComponentLink2Description: Datasheet; ComponentLink2URL: http://katalog.we-online.de/pbs/datasheet/885012208069.pdf; Created by: Karrer Zheng; Created Date: 3/9/2015; Capacitance: 10μF pF
footprint WCAP-CSGP 1206, H=1.6mm
pins: 1, 2

## WCAP-CSGP 1206, 885012208070
designator C?, comment 150 pF
WCAP-CSGP MLCC, X7R, 1206, 150 pF,50Vdc; Manufacturer: Wurth Elektronik; partNo: 885012208070; E-mail: libraries@we-online.com; ComponentLink1Description: Manufacturer; ComponentLink1URL: http://www.we-online.com; ComponentLink2Description: Datasheet; ComponentLink2URL: http://katalog.we-online.de/pbs/datasheet/885012208070.pdf; Created by: Karrer Zheng; Created Date: 3/9/2015; Capacitance: 150 pF
footprint WCAP-CSGP 1206, H=0.8mm
pins: 1, 2

## WCAP-CSGP 1206, 885012208071
designator C?, comment 220 pF
WCAP-CSGP MLCC, X7R, 1206, 220 pF,50Vdc; Manufacturer: Wurth Elektronik; partNo: 885012208071; E-mail: libraries@we-online.com; ComponentLink1Description: Manufacturer; ComponentLink1URL: http://www.we-online.com; ComponentLink2Description: Datasheet; ComponentLink2URL: http://katalog.we-online.de/pbs/datasheet/885012208071.pdf; Created by: Karrer Zheng; Created Date: 3/9/2015; Capacitance: 220 pF
footprint WCAP-CSGP 1206, H=0.8mm
pins: 1, 2

## WCAP-CSGP 1206, 885012208072
designator C?, comment 330 pF
WCAP-CSGP MLCC, X7R, 1206, 330 pF,50Vdc; Manufacturer: Wurth Elektronik; partNo: 885012208072; E-mail: libraries@we-online.com; ComponentLink1Description: Manufacturer; ComponentLink1URL: http://www.we-online.com; ComponentLink2Description: Datasheet; ComponentLink2URL: http://katalog.we-online.de/pbs/datasheet/885012208072.pdf; Created by: Karrer Zheng; Created Date: 3/9/2015; Capacitance: 330 pF
footprint WCAP-CSGP 1206, H=0.8mm
pins: 1, 2

## WCAP-CSGP 1206, 885012208073
designator C?, comment 470 pF
WCAP-CSGP MLCC, X7R, 1206, 470 pF,50Vdc; Manufacturer: Wurth Elektronik; partNo: 885012208073; E-mail: libraries@we-online.com; ComponentLink1Description: Manufacturer; ComponentLink1URL: http://www.we-online.com; ComponentLink2Description: Datasheet; ComponentLink2URL: http://katalog.we-online.de/pbs/datasheet/885012208073.pdf; Created by: Karrer Zheng; Created Date: 3/9/2015; Capacitance: 470 pF
footprint WCAP-CSGP 1206, H=0.8mm
pins: 1, 2

## WCAP-CSGP 1206, 885012208074
designator C?, comment 680 pF
WCAP-CSGP MLCC, X7R, 1206, 680 pF,50Vdc; Manufacturer: Wurth Elektronik; partNo: 885012208074; E-mail: libraries@we-online.com; ComponentLink1Description: Manufacturer; ComponentLink1URL: http://www.we-online.com; ComponentLink2Description: Datasheet; ComponentLink2URL: http://katalog.we-online.de/pbs/datasheet/885012208074.pdf; Created by: Karrer Zheng; Created Date: 3/9/2015; Capacitance: 680 pF
footprint WCAP-CSGP 1206, H=0.8mm
pins: 1, 2

## WCAP-CSGP 1206, 885012208075
designator C?, comment 1000 pF
WCAP-CSGP MLCC, X7R, 1206, 1000 pF,50Vdc; Manufacturer: Wurth Elektronik; partNo: 885012208075; E-mail: libraries@we-online.com; ComponentLink1Description: Manufacturer; ComponentLink1URL: http://www.we-online.com; ComponentLink2Description: Datasheet; ComponentLink2URL: http://katalog.we-online.de/pbs/datasheet/885012208075.pdf; Created by: Karrer Zheng; Created Date: 3/9/2015; Capacitance: 1000 pF
footprint WCAP-CSGP 1206, H=0.8mm
pins: 1, 2

## WCAP-CSGP 1206, 885012208076
designator C?, comment 1500 pF
WCAP-CSGP MLCC, X7R, 1206, 1500 pF,50Vdc; Manufacturer: Wurth Elektronik; partNo: 885012208076; E-mail: libraries@we-online.com; ComponentLink1Description: Manufacturer; ComponentLink1URL: http://www.we-online.com; ComponentLink2Description: Datasheet; ComponentLink2URL: http://katalog.we-online.de/pbs/datasheet/885012208076.pdf; Created by: Karrer Zheng; Created Date: 3/9/2015; Capacitance: 1500 pF
footprint WCAP-CSGP 1206, H=0.8mm
pins: 1, 2

## WCAP-CSGP 1206, 885012208077
designator C?, comment 2200 pF
WCAP-CSGP MLCC, X7R, 1206, 2200 pF,50Vdc; Manufacturer: Wurth Elektronik; partNo: 885012208077; E-mail: libraries@we-online.com; ComponentLink1Description: Manufacturer; ComponentLink1URL: http://www.we-online.com; ComponentLink2Description: Datasheet; ComponentLink2URL: http://katalog.we-online.de/pbs/datasheet/885012208077.pdf; Created by: Karrer Zheng; Created Date: 3/9/2015; Capacitance: 2200 pF
footprint WCAP-CSGP 1206, H=0.8mm
pins: 1, 2

## WCAP-CSGP 1206, 885012208078
designator C?, comment 3300 pF
WCAP-CSGP MLCC, X7R, 1206, 3300 pF,50Vdc; Manufacturer: Wurth Elektronik; partNo: 885012208078; E-mail: libraries@we-online.com; ComponentLink1Description: Manufacturer; ComponentLink1URL: http://www.we-online.com; ComponentLink2Description: Datasheet; ComponentLink2URL: http://katalog.we-online.de/pbs/datasheet/885012208078.pdf; Created by: Karrer Zheng; Created Date: 3/9/2015; Capacitance: 3300 pF
footprint WCAP-CSGP 1206, H=0.8mm
pins: 1, 2

## WCAP-CSGP 1206, 885012208079
designator C?, comment 4700 pF
WCAP-CSGP MLCC, X7R, 1206, 4700 pF,50Vdc; Manufacturer: Wurth Elektronik; partNo: 885012208079; E-mail: libraries@we-online.com; ComponentLink1Description: Manufacturer; ComponentLink1URL: http://www.we-online.com; ComponentLink2Description: Datasheet; ComponentLink2URL: http://katalog.we-online.de/pbs/datasheet/885012208079.pdf; Created by: Karrer Zheng; Created Date: 3/9/2015; Capacitance: 4700 pF
footprint WCAP-CSGP 1206, H=0.8mm
pins: 1, 2

## WCAP-CSGP 1206, 885012208080
designator C?, comment 6800 pF
WCAP-CSGP MLCC, X7R, 1206, 6800 pF,50Vdc; Manufacturer: Wurth Elektronik; partNo: 885012208080; E-mail: libraries@we-online.com; ComponentLink1Description: Manufacturer; ComponentLink1URL: http://www.we-online.com; ComponentLink2Description: Datasheet; ComponentLink2URL: http://katalog.we-online.de/pbs/datasheet/885012208080.pdf; Created by: Karrer Zheng; Created Date: 3/9/2015; Capacitance: 6800 pF
footprint WCAP-CSGP 1206, H=0.8mm
pins: 1, 2

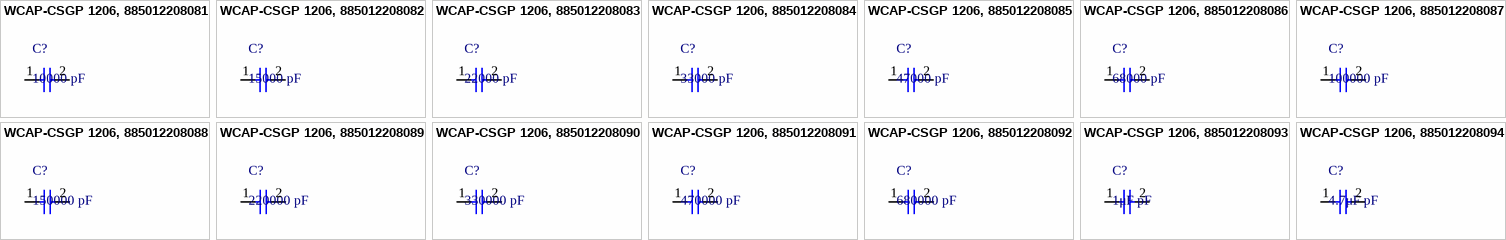
[diagram p22: symbols WCAP-CSGP 1206, 885012208081 to WCAP-CSGP 1206, 885012208094]

## WCAP-CSGP 1206, 885012208081
designator C?, comment 10000 pF
WCAP-CSGP MLCC, X7R, 1206, 10000 pF,50Vdc; Manufacturer: Wurth Elektronik; partNo: 885012208081; E-mail: libraries@we-online.com; ComponentLink1Description: Manufacturer; ComponentLink1URL: http://www.we-online.com; ComponentLink2Description: Datasheet; ComponentLink2URL: http://katalog.we-online.de/pbs/datasheet/885012208081.pdf; Created by: Karrer Zheng; Created Date: 3/9/2015; Capacitance: 10000 pF
footprint WCAP-CSGP 1206, H=0.8mm
pins: 1, 2

## WCAP-CSGP 1206, 885012208082
designator C?, comment 15000 pF
WCAP-CSGP MLCC, X7R, 1206, 15000 pF,50Vdc; Manufacturer: Wurth Elektronik; partNo: 885012208082; E-mail: libraries@we-online.com; ComponentLink1Description: Manufacturer; ComponentLink1URL: http://www.we-online.com; ComponentLink2Description: Datasheet; ComponentLink2URL: http://katalog.we-online.de/pbs/datasheet/885012208082.pdf; Created by: Karrer Zheng; Created Date: 3/9/2015; Capacitance: 15000 pF
footprint WCAP-CSGP 1206, H=0.8mm
pins: 1, 2

## WCAP-CSGP 1206, 885012208083
designator C?, comment 22000 pF
WCAP-CSGP MLCC, X7R, 1206, 22000 pF,50Vdc; Manufacturer: Wurth Elektronik; partNo: 885012208083; E-mail: libraries@we-online.com; ComponentLink1Description: Manufacturer; ComponentLink1URL: http://www.we-online.com; ComponentLink2Description: Datasheet; ComponentLink2URL: http://katalog.we-online.de/pbs/datasheet/885012208083.pdf; Created by: Karrer Zheng; Created Date: 3/9/2015; Capacitance: 22000 pF
footprint WCAP-CSGP 1206, H=0.8mm
pins: 1, 2

## WCAP-CSGP 1206, 885012208084
designator C?, comment 33000 pF
WCAP-CSGP MLCC, X7R, 1206, 33000 pF,50Vdc; Manufacturer: Wurth Elektronik; partNo: 885012208084; E-mail: libraries@we-online.com; ComponentLink1Description: Manufacturer; ComponentLink1URL: http://www.we-online.com; ComponentLink2Description: Datasheet; ComponentLink2URL: http://katalog.we-online.de/pbs/datasheet/885012208084.pdf; Created by: Karrer Zheng; Created Date: 3/9/2015; Capacitance: 33000 pF
footprint WCAP-CSGP 1206, H=0.8mm
pins: 1, 2